# EAGLE library part SI8621AB-B-IS (library HOME_Automation)
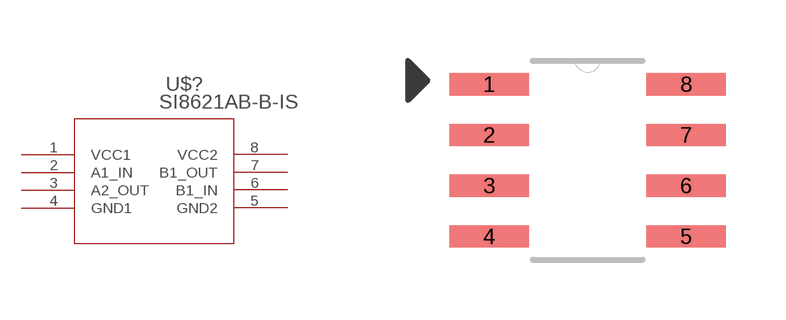
[diagram p15: symbol with the pads of D8; footprint D8]

Designator prefix U$?

## SI8621AB-B-IS1MBPS  [D8]
1  VCC1  pwr
2  A1_IN  out
3  A2_OUT  in
4  GND1  pwr
5  GND2  pwr
6  B1_IN  out
7  B1_OUT  in
8  VCC2  pwr

## Footprint D8 (pad centres in mm)
smd 1.981 x 0.559: 1 -2.464,1.905; 2 -2.464,0.635; 3 -2.464,-0.635; 4 -2.464,-1.905; 5 2.464,-1.905; 6 2.464,-0.635; 7 2.464,0.635; 8 2.464,1.905